# Altium footprint library F_0603_1608.PcbLib: 1 footprints
Each footprint in its own frame and in the unit in brackets; x right, y up, seen from the top. Pads: shape width x height; smd on the part's side, far side on the other; paste and mask are expansions set on the pad; w line width, h text height; cw(c..) or ccw(c..) is an arc to the next point about the centre after c.
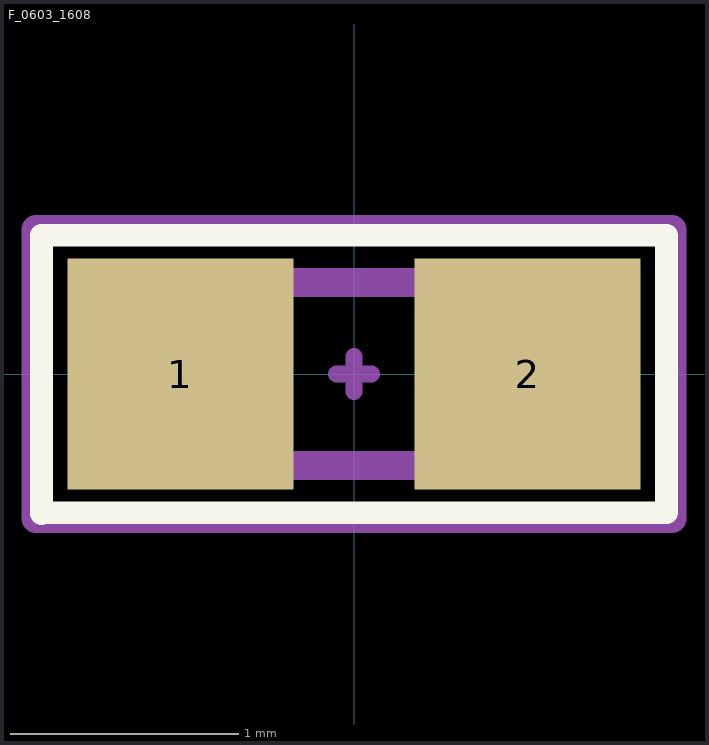
[diagram p0: the footprint, top view; thin cyan lines are the x and y axes]

## F_0603_1608 [mil]
pads (2):
  rect 39x40 smd: 1(-30,0) 2(30,0)
Top Overlay:
  lines w3.94: -54,-24.12 -54,24 54,24 54,-24 -54,-24
Top Assembly:
  lines w5: -31.49,-15.79 31.5,-15.79 31.5,15.79 -31.49,15.79 -31.49,-15.79
Top Courtyard:
  lines w3: -3,0 3,0 ; 0,-3 0,3
  lines w5: -55,-25 55,-25 55,25 -55,25 -55,-25
3D body "User Library-Fuse0603.step": height 31.54, standoff -0.04, extent -31.49,-15.79 31.5,15.79